# Altium footprint library RALEC_PKG_2512.PcbLib: 1 footprints
Each footprint in its own frame and in the unit in brackets; x right, y up, seen from the top. Pads: shape width x height; smd on the part's side, far side on the other; paste and mask are expansions set on the pad; w line width, h text height; cw(c..) or ccw(c..) is an arc to the next point about the centre after c.
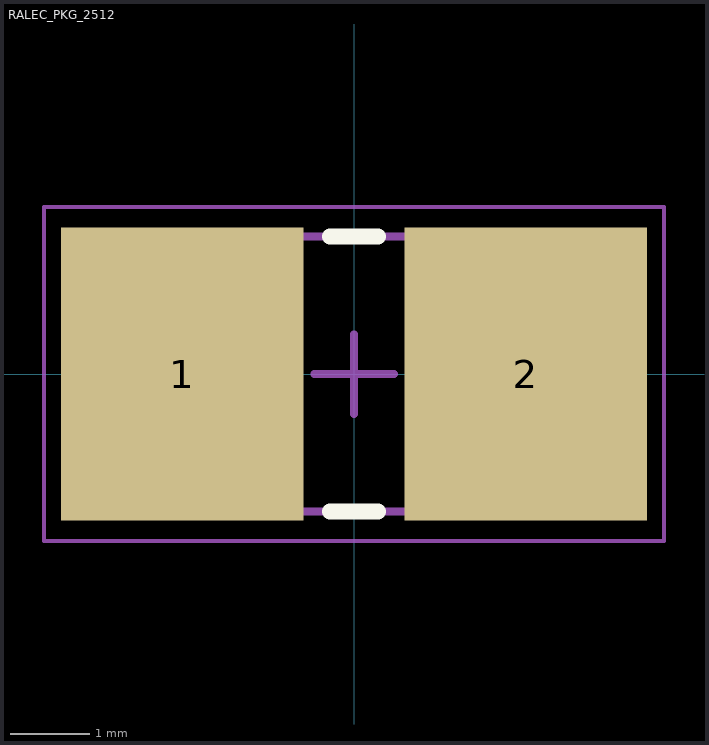
[diagram p0: the footprint, top view; thin cyan lines are the x and y axes]

## RALEC_PKG_2512 [mm]
height 1.041
pads (2):
  rect 3.05x3.68 smd: 1(-2.16,0) 2(2.16,0)
Top Overlay:
  lines w0.2: -0.3,-1.728 0.3,-1.728 ; -0.3,1.728 0.3,1.728
Mechanical 13 (Mech13):
  lines w0.1: -3.251,-1.728 3.251,-1.728 3.251,1.728 -3.251,1.728 -3.251,-1.728
Mechanical 15:
  lines w0.05: -3.9,-2.1 3.9,-2.1 3.9,2.1 -3.9,2.1 -3.9,-2.1
  lines w0.1: -0.5,0 0.5,0 ; 0,-0.5 0,0.5